# Altium schematic symbol library Low Loss Power Path Controller.SchLib: 1 symbol
Pins are listed as number, name and electrical type; pins without a type are passive.

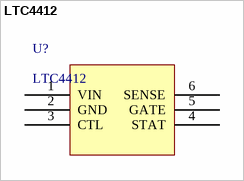
[diagram p0: symbol LTC4412]

## LTC4412
designator U?
Low Loss Power Path Controller in Thin SOT
footprint SOT95P245X110-6N (SOT23, 6-Leads, Body 3.0x2.6mm (max), Pitch 0.95mm, IPC Medium Density)
pins: 1 VIN, 2 GND, 3 CTL, 4 STAT, 5 GATE, 6 SENSE